# EAGLE library part Z9-T/Z9-C (library SlideSentinel)
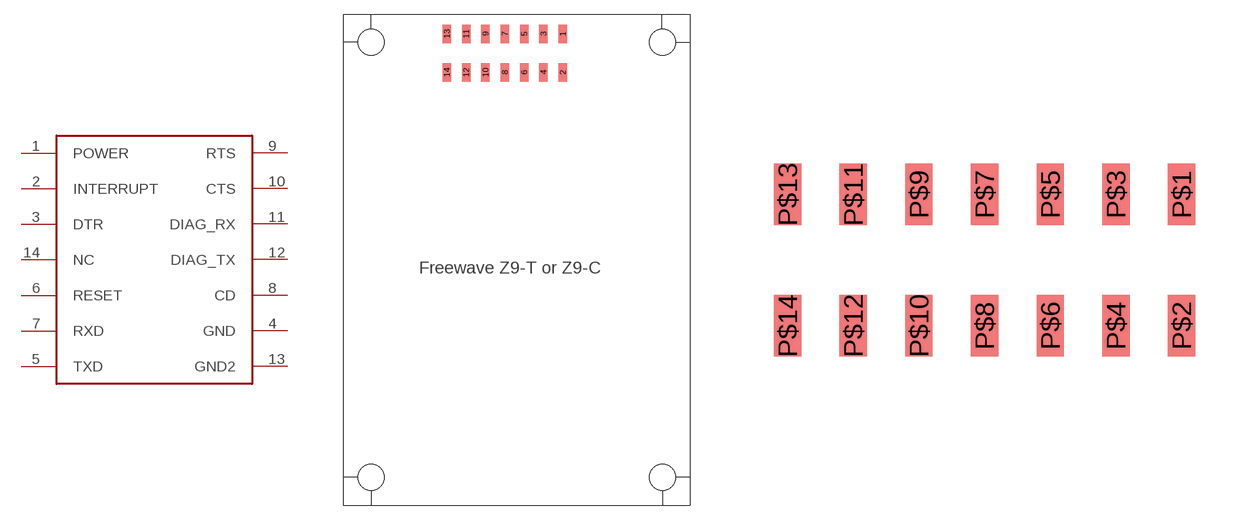
[diagram p1: symbol with the pads of Z9-T/Z9-C; footprints Z9-T/Z9-C, Z9-T/Z9-C-COPY]

Designator prefix -

## Z9-T/Z9-C  [Z9-T/Z9-C]
1  POWER
2  INTERRUPT
3  DTR
4  GND
5  TXD
6  RESET
7  RXD
8  CD
9  RTS
10  CTS
11  DIAG_RX
12  DIAG_TX
13  GND2
14  NC

## Z9-T/Z9-CCOPY  [Z9-T/Z9-C-COPY]
P$1  POWER
P$2  INTERRUPT
P$3  DTR
P$4  GND
P$5  TXD
P$6  RESET
P$7  RXD
P$8  CD
P$9  RTS
P$10  CTS
P$11  DIAG_RX
P$12  DIAG_TX
P$13  GND2
P$14  NC

## Footprint Z9-T/Z9-C (pad centres in mm)
translated Allegro footprint
smd 0.89 x 1.91: 1 6,2; 2 6,-2; 3 4,2; 4 4,-2; 5 2,2; 6 2,-2; 7 0,2; 8 0,-2; 9 -2,2; 10 -2,-2; 11 -4,2; 12 -4,-2; 13 -6,2; 14 -6,-2
hole 2.7 at -13.832,1.122
hole 2.7 at -13.832,-43.922
hole 2.7 at 16.302,-43.912
hole 2.7 at 16.302,1.122

## Footprint Z9-T/Z9-C-COPY (pad centres in mm)
smd 0.83 x 1.87: P$1 6,2; P$2 6,-2; P$3 4,2; P$4 4,-2; P$5 2,2; P$6 2,-2; P$7 0,2; P$8 0,-2; P$9 -2,2; P$10 -2,-2; P$11 -4,2; P$12 -4,-2; P$13 -6,2; P$14 -6,-2